# EAGLE library part STM32F4_DISC (library stm32f3_disc)
STM32F4 Discovery Board
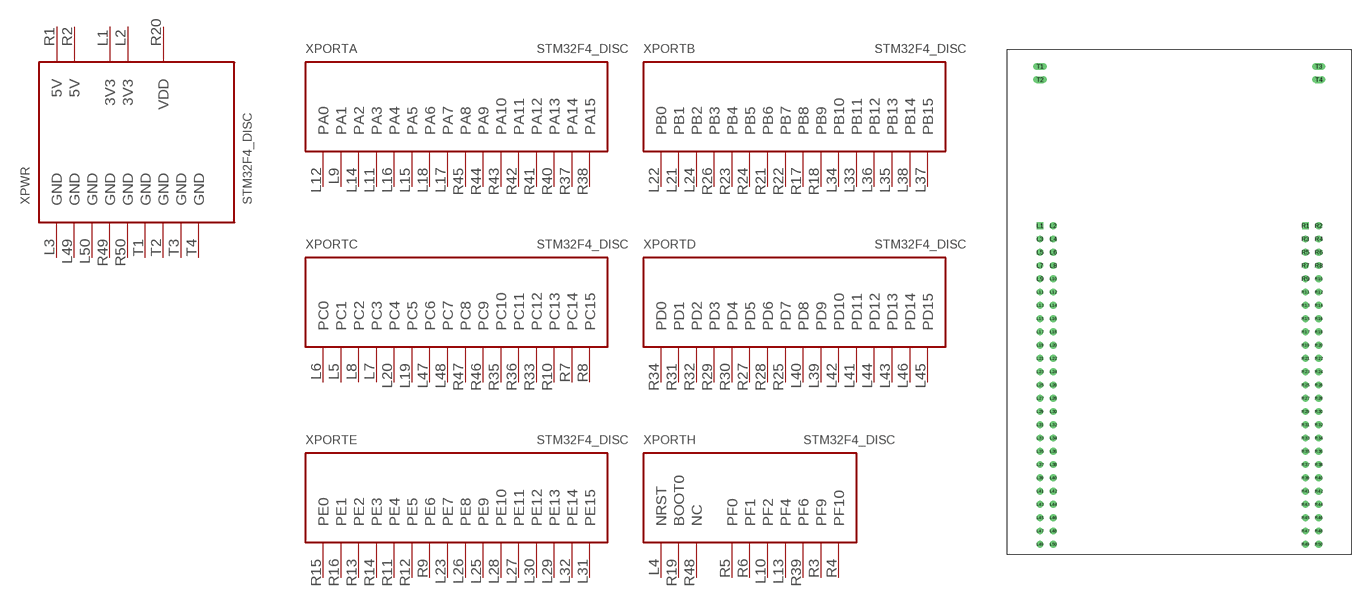
[diagram p0: symbol with the pads of STM32F4_DISC; footprint STM32F4_DISC]

Designator prefix X; gates PWR=STM32F4_POWER PORTA=STM32F4_PORTA PORTB=STM32F4_PORTB PORTC=STM32F4_PORTC PORTD=STM32F4_PORTD PORTE=STM32F4_PORTE PORTH=STM32F4_PORTH

## STM32F4_DISC  [STM32F4_DISC]
L1  PWR:3V3  pwr
L2  PWR:3V3  pwr
L3  PWR:GND  pwr
L4  PORTH:NRST
L5  PORTC:PC1
L6  PORTC:PC0
L7  PORTC:PC3
L8  PORTC:PC2
L9  PORTA:PA1
L10  PORTH:PF2  pas
L11  PORTA:PA3
L12  PORTA:PA0
L13  PORTH:PF4
L14  PORTA:PA2
L15  PORTA:PA5
L16  PORTA:PA4
L17  PORTA:PA7
L18  PORTA:PA6
L19  PORTC:PC5
L20  PORTC:PC4
L21  PORTB:PB1
L22  PORTB:PB0
L23  PORTE:PE7
L24  PORTB:PB2
L25  PORTE:PE9
L26  PORTE:PE8
L27  PORTE:PE11
L28  PORTE:PE10
L29  PORTE:PE13
L30  PORTE:PE12
L31  PORTE:PE15
L32  PORTE:PE14
L33  PORTB:PB11
L34  PORTB:PB10
L35  PORTB:PB13
L36  PORTB:PB12
L37  PORTB:PB15
L38  PORTB:PB14
L39  PORTD:PD9
L40  PORTD:PD8
L41  PORTD:PD11
L42  PORTD:PD10
L43  PORTD:PD13
L44  PORTD:PD12
L45  PORTD:PD15
L46  PORTD:PD14
L47  PORTC:PC6
L48  PORTC:PC7
L49  PWR:GND  pwr
L50  PWR:GND  pwr
R1  PWR:5V  pwr
R2  PWR:5V  pwr
R3  PORTH:PF9  pas
R4  PORTH:PF10  pas
R5  PORTH:PF0
R6  PORTH:PF1
R7  PORTC:PC14
R8  PORTC:PC15
R9  PORTE:PE6
R10  PORTC:PC13
R11  PORTE:PE4
R12  PORTE:PE5
R13  PORTE:PE2
R14  PORTE:PE3
R15  PORTE:PE0
R16  PORTE:PE1
R17  PORTB:PB8
R18  PORTB:PB9
R19  PORTH:BOOT0
R20  PWR:VDD  pwr
R21  PORTB:PB6
R22  PORTB:PB7
R23  PORTB:PB4
R24  PORTB:PB5
R25  PORTD:PD7
R26  PORTB:PB3
R27  PORTD:PD5
R28  PORTD:PD6
R29  PORTD:PD3
R30  PORTD:PD4
R31  PORTD:PD1
R32  PORTD:PD2
R33  PORTC:PC12
R34  PORTD:PD0
R35  PORTC:PC10
R36  PORTC:PC11
R37  PORTA:PA14
R38  PORTA:PA15
R39  PORTH:PF6  pas
R40  PORTA:PA13
R41  PORTA:PA12
R42  PORTA:PA11
R43  PORTA:PA10
R44  PORTA:PA9
R45  PORTA:PA8
R46  PORTC:PC9
R47  PORTC:PC8
R48  PORTH:NC  nc
R49  PWR:GND  pwr
R50  PWR:GND  pwr
T1  PWR:GND  pwr
T2  PWR:GND  pwr
T3  PWR:GND  pwr
T4  PWR:GND  pwr

## Footprint STM32F4_DISC (pad centres in mm)
STM32F4 Discovery Board Footprint
drill 0.8 square: L1 -27.94,30.48; R1 22.86,30.48
drill 0.8: L2 -25.4,30.48; L3 -27.94,27.94; L4 -25.4,27.94; L5 -27.94,25.4; L6 -25.4,25.4; L7 -27.94,22.86; L8 -25.4,22.86; L9 -27.94,20.32; L10 -25.4,20.32; L11 -27.94,17.78; L12 -25.4,17.78; L13 -27.94,15.24; L14 -25.4,15.24; L15 -27.94,12.7; L16 -25.4,12.7; L17 -27.94,10.16; L18 -25.4,10.16; L19 -27.94,7.62; L20 -25.4,7.62; L21 -27.94,5.08; L22 -25.4,5.08; L23 -27.94,2.54; L24 -25.4,2.54; L25 -27.94,0; L26 -25.4,0; L27 -27.94,-2.54; L28 -25.4,-2.54; L29 -27.94,-5.08; L30 -25.4,-5.08; L31 -27.94,-7.62; L32 -25.4,-7.62; L33 -27.94,-10.16; L34 -25.4,-10.16; L35 -27.94,-12.7; L36 -25.4,-12.7; L37 -27.94,-15.24; L38 -25.4,-15.24; L39 -27.94,-17.78; L40 -25.4,-17.78; L41 -27.94,-20.32; L42 -25.4,-20.32; L43 -27.94,-22.86; L44 -25.4,-22.86; L45 -27.94,-25.4; L46 -25.4,-25.4; L47 -27.94,-27.94; L48 -25.4,-27.94; L49 -27.94,-30.48; L50 -25.4,-30.48; R2 25.4,30.48; R3 22.86,27.94; R4 25.4,27.94; R5 22.86,25.4; R6 25.4,25.4; R7 22.86,22.86; R8 25.4,22.86; R9 22.86,20.32; R10 25.4,20.32; R11 22.86,17.78; R12 25.4,17.78; R13 22.86,15.24; R14 25.4,15.24; R15 22.86,12.7; R16 25.4,12.7; R17 22.86,10.16; R18 25.4,10.16; R19 22.86,7.62; R20 25.4,7.62; R21 22.86,5.08; R22 25.4,5.08; R23 22.86,2.54; R24 25.4,2.54; R25 22.86,0; R26 25.4,0; R27 22.86,-2.54; R28 25.4,-2.54; R29 22.86,-5.08; R30 25.4,-5.08; R31 22.86,-7.62; R32 25.4,-7.62; R33 22.86,-10.16; R34 25.4,-10.16; R35 22.86,-12.7; R36 25.4,-12.7; R37 22.86,-15.24; R38 25.4,-15.24; R39 22.86,-17.78; R40 25.4,-17.78; R41 22.86,-20.32; R42 25.4,-20.32; R43 22.86,-22.86; R44 25.4,-22.86; R45 22.86,-25.4; R46 25.4,-25.4; R47 22.86,-27.94; R48 25.4,-27.94; R49 22.86,-30.48; R50 25.4,-30.48
drill 0.8 long: T1 -27.94,60.96; T2 -27.94,58.42; T3 25.4,60.96; T4 25.4,58.42